# Altium schematic symbol library Program_Debug.SchLib: 1 symbol
Pins are listed as number, name and electrical type; pins without a type are passive.

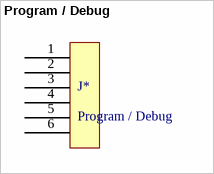
[diagram p0: symbol Program / Debug]

## Program / Debug
designator J*
footprint HDR1X6H (Footprint not found)
pins: 1 *, 2, 3, 4, 5, 6